# Altium schematic symbol library ti84_usbc.SchLib: 7 symbols
Pins are listed as number, name and electrical type; pins without a type are passive.

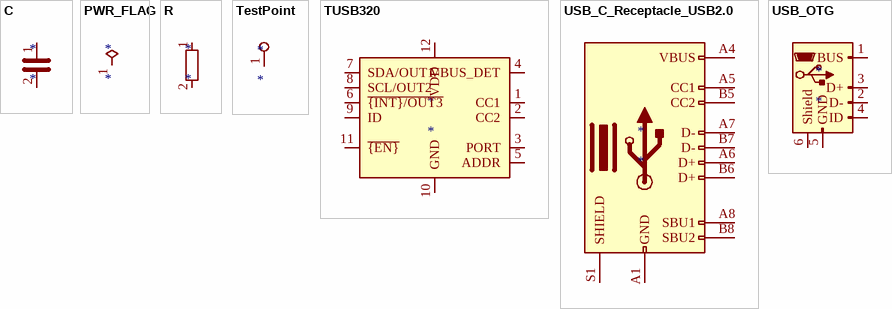
[diagram p0: symbols C to USB_OTG]

## C
designator *
pins: 1, 2

## PWR_FLAG
designator *  (graphical)
pins: 1 pwr

## R
designator *
pins: 1, 2

## TestPoint
designator *
pins: 1

## TUSB320
designator *
pins: 1 CC1, 2 CC2, 3 PORT, 4 VBUS_DET, 5 ADDR, 6 ~{{INT}/OUT3}, 7 SDA/OUT1, 8 SCL/OUT2, 9 ID, 10 GND, 11 ~{{EN}}, 12 VDD

## USB_C_Receptacle_USB2.0
designator *
pins: A1 GND, A4 VBUS, A5 CC1, A6 D+, A7 D-, A8 SBU1, A9 VBUS hidden, A12 GND hidden, B1 GND hidden, B4 VBUS hidden, B5 CC2, B6 D+, B7 D-, B8 SBU2, B9 VBUS hidden, B12 GND hidden, S1 SHIELD

## USB_OTG
designator *
pins: 1 VBUS, 2 D-, 3 D+, 4 ID, 5 GND, 6 Shield